# Altium footprint library eval1608_fp_lib.PcbLib: 9 footprints
Each footprint in its own frame and in the unit in brackets; x right, y up, seen from the top. Pads: shape width x height; smd on the part's side, far side on the other; paste and mask are expansions set on the pad; w line width, h text height; cw(c..) or ccw(c..) is an arc to the next point about the centre after c.
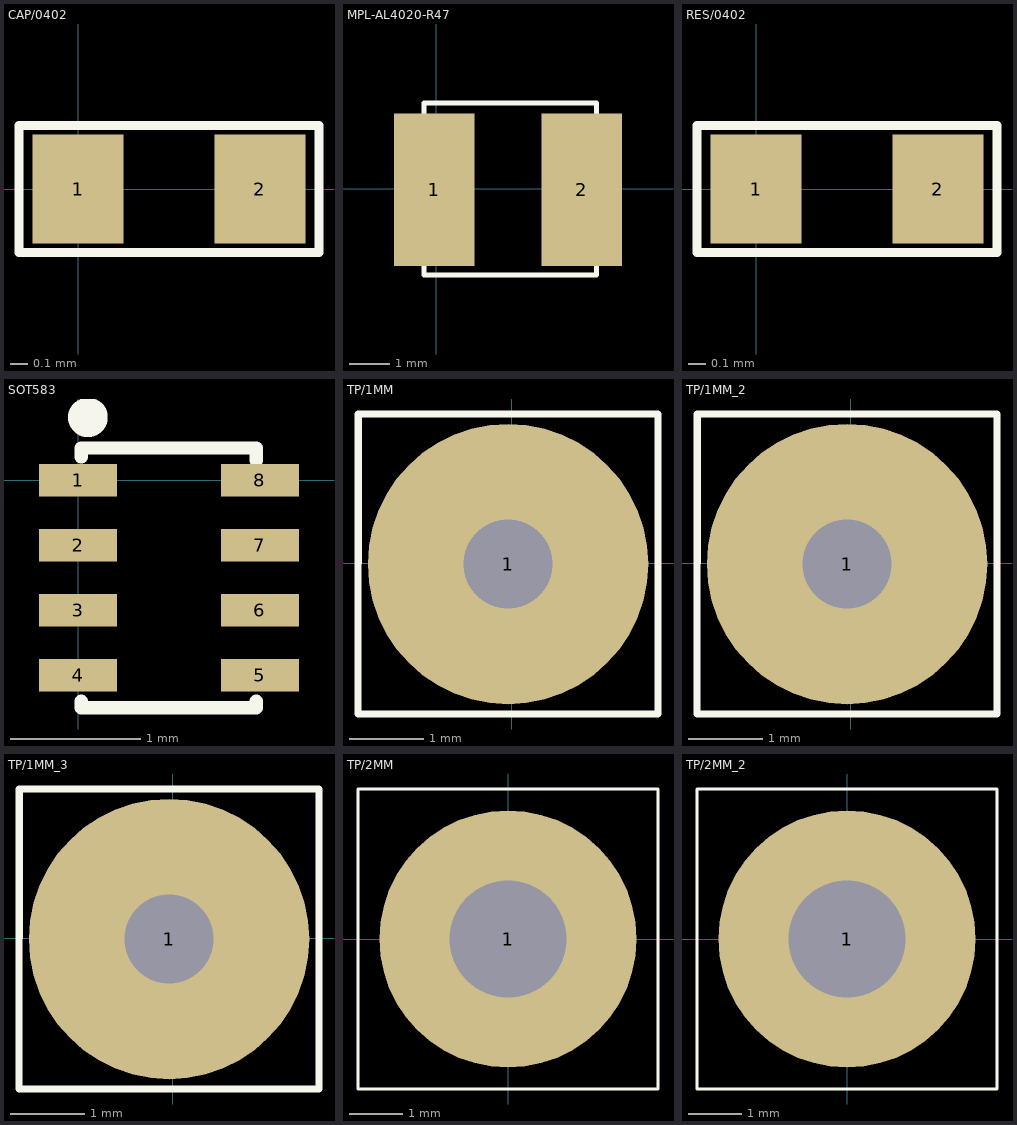
[diagram p0: the footprints below, top view; thin cyan lines are the x and y axes]

## CAP/0402 [mil]
pads (2):
  rect 20x24 smd paste+0 mask+0: 1(0,0) 2(40,0)
Top Overlay:
  lines w1.97: -13,-14 53,-14 53,14 -13,14 -13,-14

## MPL-AL4020-R47 [mm]
pads (2):
  rect 2x3.8 smd mask+0.051: 1(-0.051,-0.025) 2(3.632,-0.025)
Top Overlay:
  lines w0.127: -0.305,-2.159 3.995,-2.159 3.995,2.141 -0.305,2.141 -0.305,-2.159
3D body "MPL-AL4020-R47.stp": height 1.78, standoff -0.12, extent -0.196,-2.05 3.904,2.05

## RES/0402 [mil]
pads (2):
  rect 20x24 smd paste-1000: 1(0,0) 2(40,0)
Top Overlay:
  lines w1.97: -13,-14 53,-14 53,14 -13,14 -13,-14
Top Paste:
  region: 10,-12 10,12 -10,12 -10,-12
  region: 50,-12 50,12 30,12 30,-12

## SOT583 [mm]
pads (8):
  rect 0.6x0.25 smd mask+0.051: 1(0,0) 2(0,-0.5) 3(0,-1) 4(0,-1.5) 5(1.4,-1.5) 6(1.4,-1) 7(1.4,-0.5) 8(1.4,0)
Top Overlay:
  circle w0.254: c0.076,0.483 r0.025
  lines w0.102: 0.025,-1.702 0.025,-1.753 1.372,-1.753 1.372,-1.702 ; 0.025,0.178 0.025,0.247 1.372,0.247 1.372,0.152
3D body "SOT583.stp": height 0.56, standoff 0, extent -0.038,-1.812 1.562,0.288

## TP/1MM [mm]
pads (1):
  round 3.8 hole 1.2 paste-2539.97 mask+0.05: 1(-0.051,-0.011)
Top Overlay:
  lines w0.102: -2.083,-2.043 -2.083,2.021 1.981,2.021 1.981,-2.043 -2.083,-2.043
Top Paste:
  region: -0.051,1.776 -0.399,1.742 -0.734,1.64 -1.043,1.475 -1.314,1.253 -1.536,0.982 -1.701,0.673 -1.803,0.338 -1.837,-0.011 -1.803,-0.359 -1.701,-0.694 -1.536,-1.003 -1.314,-1.274 -1.043,-1.496 -0.734,-1.661 -0.399,-1.763 -0.051,-1.797 0.298,-1.763 0.633,-1.661 0.942,-1.496 1.213,-1.274 1.435,-1.003 1.6,-0.694 1.702,-0.359 1.736,-0.011 1.702,0.338 1.6,0.673 1.435,0.982 1.213,1.253 0.942,1.475 0.633,1.64 0.298,1.742
Bottom Paste:
  region: -0.051,1.776 -0.399,1.742 -0.734,1.64 -1.043,1.475 -1.314,1.253 -1.536,0.982 -1.701,0.673 -1.803,0.338 -1.837,-0.011 -1.803,-0.359 -1.701,-0.694 -1.536,-1.003 -1.314,-1.274 -1.043,-1.496 -0.734,-1.661 -0.399,-1.763 -0.051,-1.797 0.298,-1.763 0.633,-1.661 0.942,-1.496 1.213,-1.274 1.435,-1.003 1.6,-0.694 1.702,-0.359 1.736,-0.011 1.702,0.338 1.6,0.673 1.435,0.982 1.213,1.253 0.942,1.475 0.633,1.64 0.298,1.742

## TP/1MM_2 [mm]
pads (1):
  round 3.8 hole 1.2 paste-2539.97 mask+0.05: 1(-0.051,-0.011)
Top Overlay:
  lines w0.102: -2.083,-2.043 1.981,-2.043 1.981,2.021 -2.083,2.021 -2.083,-2.043
Top Paste:
  region: -0.051,1.776 -0.399,1.742 -0.734,1.64 -1.043,1.475 -1.314,1.253 -1.536,0.982 -1.701,0.673 -1.803,0.338 -1.837,-0.011 -1.803,-0.359 -1.701,-0.694 -1.536,-1.003 -1.314,-1.274 -1.043,-1.496 -0.734,-1.661 -0.399,-1.763 -0.051,-1.797 0.298,-1.763 0.633,-1.661 0.942,-1.496 1.213,-1.274 1.435,-1.003 1.6,-0.694 1.702,-0.359 1.736,-0.011 1.702,0.338 1.6,0.673 1.435,0.982 1.213,1.253 0.942,1.475 0.633,1.64 0.298,1.742
Bottom Paste:
  region: -0.051,1.776 -0.399,1.742 -0.734,1.64 -1.043,1.475 -1.314,1.253 -1.536,0.982 -1.701,0.673 -1.803,0.338 -1.837,-0.011 -1.803,-0.359 -1.701,-0.694 -1.536,-1.003 -1.314,-1.274 -1.043,-1.496 -0.734,-1.661 -0.399,-1.763 -0.051,-1.797 0.298,-1.763 0.633,-1.661 0.942,-1.496 1.213,-1.274 1.435,-1.003 1.6,-0.694 1.702,-0.359 1.736,-0.011 1.702,0.338 1.6,0.673 1.435,0.982 1.213,1.253 0.942,1.475 0.633,1.64 0.298,1.742

## TP/1MM_3 [mm]
pads (1):
  round 3.8 hole 1.2 paste-2539.97 mask+0.05: 1(-0.051,-0.011)
Top Overlay:
  lines w0.102: -2.083,-2.043 -2.083,2.021 1.981,2.021 1.981,-2.043 -2.083,-2.043
Top Paste:
  region: -0.051,1.776 -0.399,1.742 -0.734,1.64 -1.043,1.475 -1.314,1.253 -1.536,0.982 -1.701,0.673 -1.803,0.338 -1.837,-0.011 -1.803,-0.359 -1.701,-0.694 -1.536,-1.003 -1.314,-1.274 -1.043,-1.496 -0.734,-1.661 -0.399,-1.763 -0.051,-1.797 0.298,-1.763 0.633,-1.661 0.942,-1.496 1.213,-1.274 1.435,-1.003 1.6,-0.694 1.702,-0.359 1.736,-0.011 1.702,0.338 1.6,0.673 1.435,0.982 1.213,1.253 0.942,1.475 0.633,1.64 0.298,1.742
Bottom Paste:
  region: -0.051,1.776 -0.399,1.742 -0.734,1.64 -1.043,1.475 -1.314,1.253 -1.536,0.982 -1.701,0.673 -1.803,0.338 -1.837,-0.011 -1.803,-0.359 -1.701,-0.694 -1.536,-1.003 -1.314,-1.274 -1.043,-1.496 -0.734,-1.661 -0.399,-1.763 -0.051,-1.797 0.298,-1.763 0.633,-1.661 0.942,-1.496 1.213,-1.274 1.435,-1.003 1.6,-0.694 1.702,-0.359 1.736,-0.011 1.702,0.338 1.6,0.673 1.435,0.982 1.213,1.253 0.942,1.475 0.633,1.64 0.298,1.742

## TP/2MM [mm]
pads (1):
  round 4.8 hole 2.184: 1(0,0)
Top Overlay:
  lines w0.051: -2.8,-2.8 -2.8,2.8 -2.7,2.8 2.8,2.8 2.8,-2.8 -2.8,-2.8

## TP/2MM_2 [mm]
pads (1):
  round 4.8 hole 2.184: 1(0,0)
Top Overlay:
  lines w0.051: -2.8,-2.8 2.8,-2.8 2.8,2.8 -2.7,2.8 -2.8,2.8 -2.8,-2.8